# Altium integrated library FST3253.IntLib: 1 symbol
Pins are listed as number, name and electrical type; pins without a type are passive.

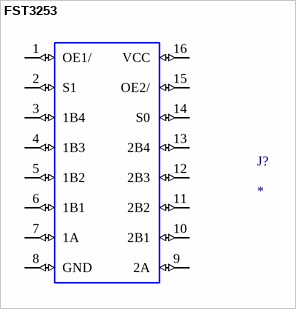
[diagram p0: symbol FST3253]

## FST3253
designator J?
Multiplekser/demultiplekser 2 x 4:1 16-TSSOP; MP: FST3253; MF: ON Semiconductor; Purchase-URL: https://pricing.snapeda.com/search/part/FST3253/?ref=eda; Check_prices: https://www.snapeda.com/parts/FST3253/Onsemi/view-part/?ref=eda; Availability: In Stock; Value: *; Price: None; Package: TSSOP-16 ON Semiconductor; SnapEDA_Link: https://www.snapeda.com/parts/FST3253/Onsemi/view-part/?ref=snap
footprint SO16
pins: 1 OE1/ (io), 2 S1 (io), 3 1B4 (io), 4 1B3 (io), 5 1B2 (io), 6 1B1 (io), 7 1A (io), 8 GND (io), 9 2A (io), 10 2B1 (io), 11 2B2 (io), 12 2B3 (io), 13 2B4 (io), 14 S0 (io), 15 OE2/ (io), 16 VCC (io)